# EAGLE library part SFWR12R (library con-fci)
FPC Connector
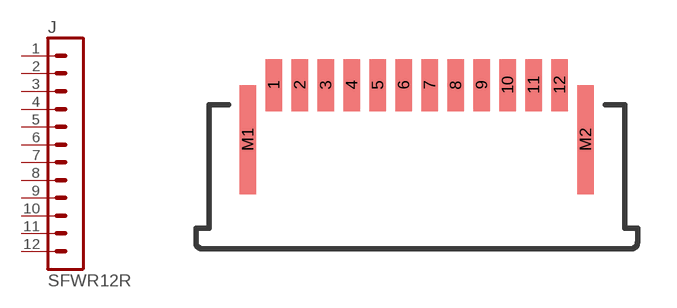
[diagram p3: symbol with the pads of SFW12R; footprint SFW12R]

Designator prefix J

## SFWR12R  [SFW12R]
1  1  pas
2  2  pas
3  3  pas
4  4  pas
5  5  pas
6  6  pas
7  7  pas
8  8  pas
9  9  pas
10  10  pas
11  11  pas
12  12  pas

## Footprint SFW12R (pad centres in mm)
FFC/FPC - 1mm Right Angle, SMT Bottom Contact
smd 0.65 x 2: 1 -5.5,1; 2 -4.5,1; 3 -3.5,1; 4 -2.5,1; 5 -1.5,1; 6 -0.5,1; 7 0.5,1; 8 1.5,1; 9 2.5,1; 10 3.5,1; 11 4.5,1; 12 5.5,1
smd 0.65 x 4.2: M1 -6.5,-1.1; M2 6.5,-1.1